# EAGLE library part SBH41-NBPB-D05-ST (library con-sullins)
HEADER
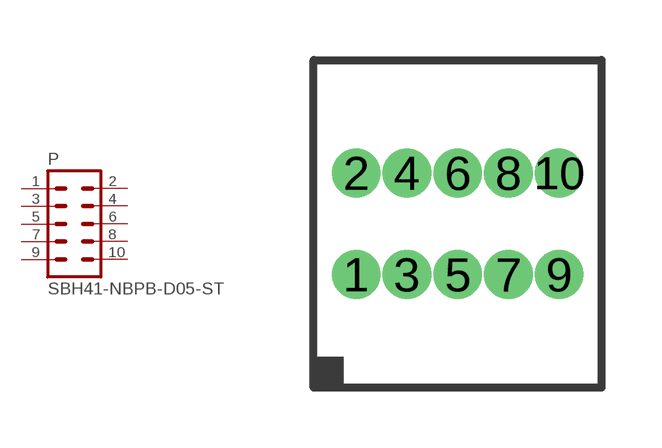
[diagram p58: symbol with the pads of SBH41-NBPB-D05-ST; footprint SBH41-NBPB-D05-ST]

Designator prefix P

## SBH41-NBPB-D05-ST  [SBH41-NBPB-D05-ST]
1  1  pas
2  2  pas
3  3  pas
4  4  pas
5  5  pas
6  6  pas
7  7  pas
8  8  pas
9  9  pas
10  10  pas

## Footprint SBH41-NBPB-D05-ST (pad centres in mm)
HEADER
drill 0.711: 1 -2.54,-1.27; 2 -2.54,1.27; 3 -1.27,-1.27; 4 -1.27,1.27; 5 0,-1.27; 6 0,1.27; 7 1.27,-1.27; 8 1.27,1.27; 9 2.54,-1.27; 10 2.54,1.27